# Altium footprint library smd_cap.PcbLib: 15 footprints
Each footprint in its own frame and in the unit in brackets; x right, y up, seen from the top. Pads: shape width x height; smd on the part's side, far side on the other; paste and mask are expansions set on the pad; w line width, h text height; cw(c..) or ccw(c..) is an arc to the next point about the centre after c.
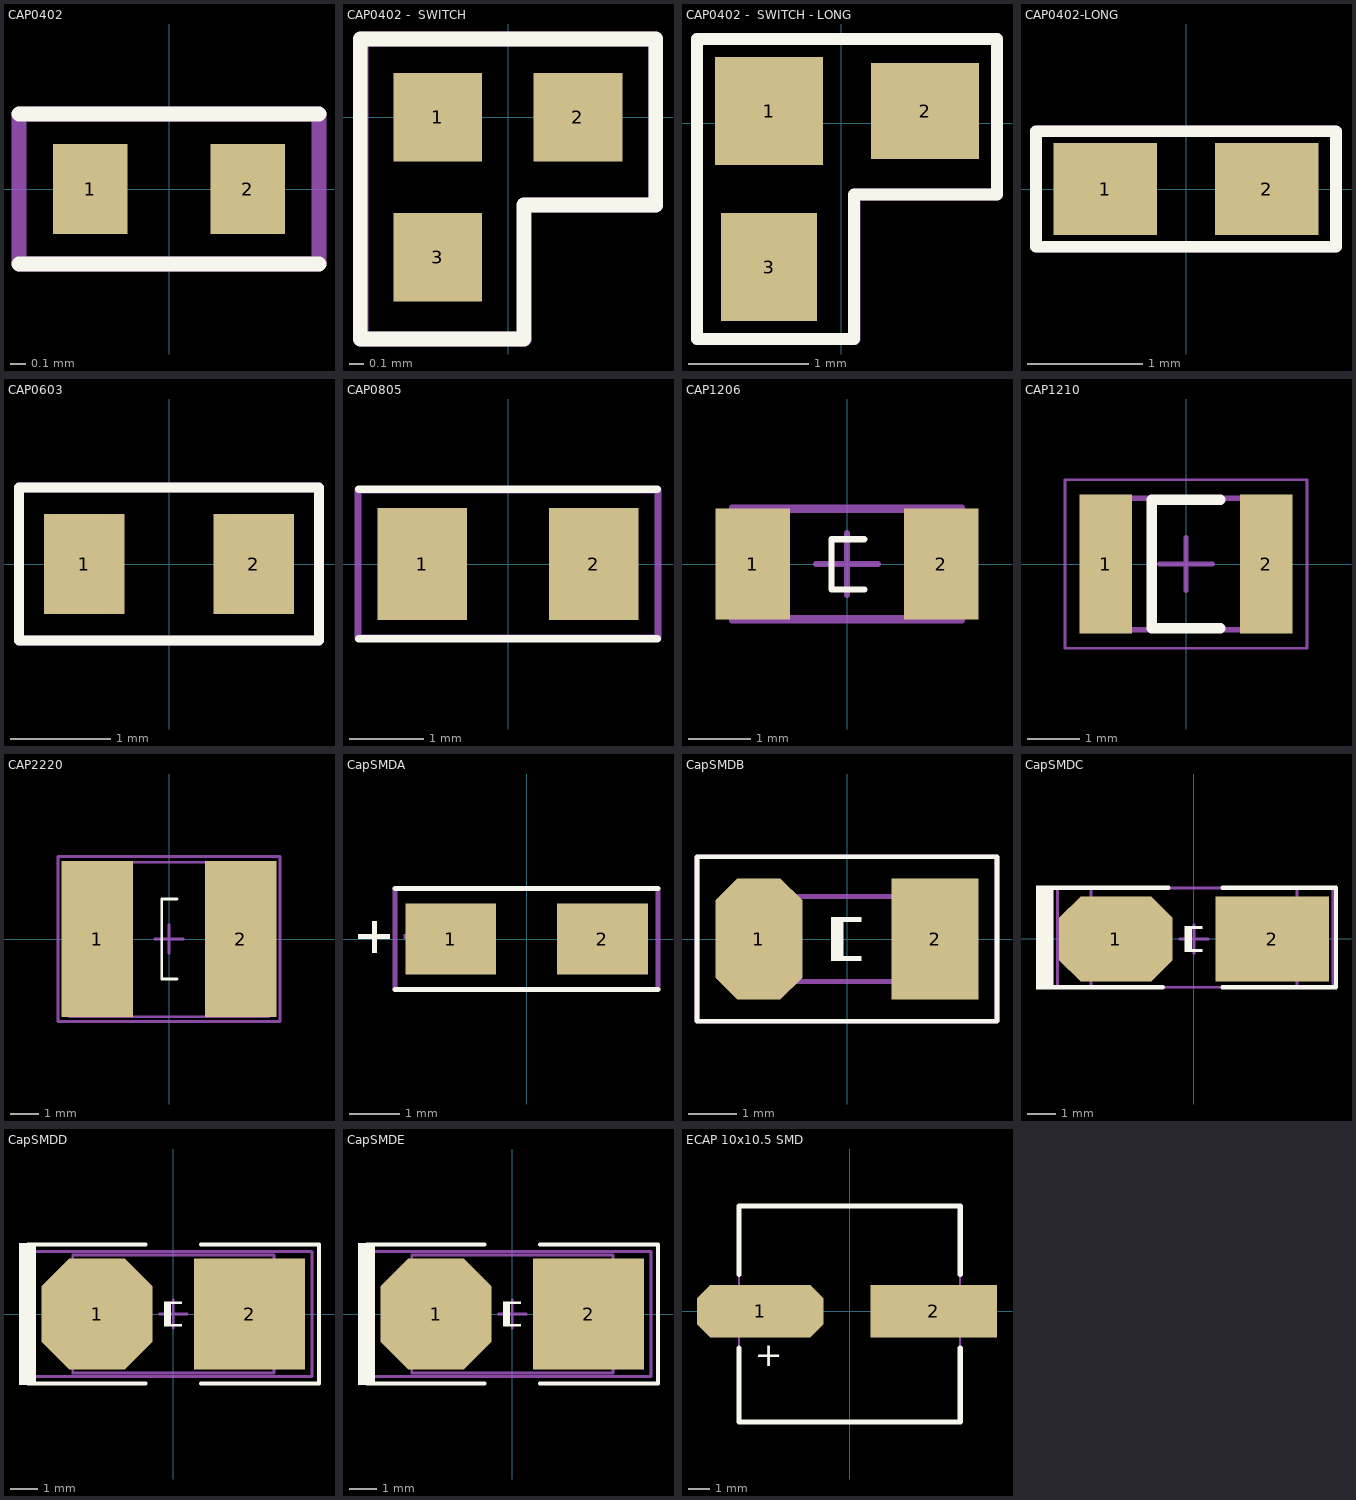
[diagram p0: the footprints below, top view; thin cyan lines are the x and y axes]

## CAP0402 [mm]
pads (2):
  rect 0.5x0.6 smd: 1(-0.525,0) 2(0.525,0)
Top Overlay:
  lines w0.1: -1,-0.5 1,-0.5 ; -1,0.5 1,0.5
Mechanical 29:
  lines w0.1: -1,-0.5 1,-0.5 1,0.5 -1,0.5 -1,-0.5
  text ".Comment" at -0.889,0.635 h0.7
  text ".Designator" at -1,-0.3 h0.7
3D body "CAP0402.step": height 0.5, standoff 0, extent -0.5,-0.25 0.5,0.25

## CAP0402 -  SWITCH [mm] "Возможность комутировать антенну"
pads (3):
  rect 0.6x0.6 smd: 1(-0.475,0) 2(0.473,0) 3(-0.475,-0.948)
Top Overlay:
  lines w0.1: -1,-1.501 0.106,-1.501 0.106,-0.595 0.999,-0.595 0.999,0.529 -1,0.529 -1,-1.501
Mechanical 29:
  lines w0.1: -0.996,-1.501 0.111,-1.501 0.111,-0.595 0.999,-0.595 0.999,0.529 -0.996,0.529 -0.996,-1.501
  text ".Designator" at -0.921,0.635 h0.7
3D body "CAP0402.step": height 0.5, standoff 0, extent -0.5,-0.25 0.5,0.25

## CAP0402 -  SWITCH - LONG [mm] "Возможность комутировать антенну"
pads (3):
  rect 0.9x0.9 smd: 1(-0.6,0.1)
  rect 0.9x0.8 smd: 2(0.7,0.1)
  rect 0.8x0.9 smd: 3(-0.6,-1.2)
Top Overlay:
  lines w0.1: -1.2,-1.8 0.106,-1.8 0.106,-0.595 1.3,-0.595 1.3,0.7 -1.2,0.7 -1.2,-1.8
Mechanical 29:
  lines w0.1: -1.2,-1.8 0.111,-1.8 0.111,-0.595 1.3,-0.595 1.3,0.7 -1.2,0.7 -1.2,-1.8
  text ".Designator" at -0.921,0.635 h0.7
3D body "CAP0402.step": height 0.5, standoff 0, extent -0.4,-0.2 0.6,0.3

## CAP0402-LONG [mm]
pads (2):
  rect 0.9x0.8 smd: 1(-0.7,0) 2(0.7,0)
Top Overlay:
  lines w0.1: -1.3,-0.5 1.3,-0.5 1.3,0.5 -1.3,0.5 -1.3,-0.5
Mechanical 29:
  lines w0.1: -1.3,-0.5 1.3,-0.5 1.3,0.5 -1.3,0.5 -1.3,-0.5
  text ".Designator" at -1,-0.3 h0.7
3D body "CAP0402.step": height 0.5, standoff 0, extent -0.5,-0.25 0.5,0.25

## CAP0603 [mm] "Chip Resistor, 2-Leads, Body 2,0x1,3mm, IPC Medium Density"
height 0.5
pads (2):
  rect 0.8x1 smd: 1(-0.847,0) 2(0.847,0)
Top Overlay:
  lines w0.1: -1.499,-0.762 1.499,-0.762 1.499,0.762 -1.499,0.762 -1.499,-0.762
Mechanical 29:
  lines w0.1: -1.499,-0.762 1.499,-0.762 1.499,0.762 -1.499,0.762 -1.499,-0.762
  text ".Comment" at -1.289,0.872 h0.7
  text ".Designator" at -0.94,-0.178 h1
3D body "cap0603.STEP": height 0.89, standoff 0.01, extent -0.812,-0.423 0.788,0.387

## CAP0805 [mm]
pads (2):
  rect 1.2x1.5 smd: 1(-1.148,0) 2(1.148,0)
Top Overlay:
  lines w0.1: -2,-1 2,-1 ; -2,1 2,1
Mechanical 29:
  lines w0.1: -2.007,-0.991 -2.007,0.991 2.007,0.991 2.007,-0.991 -2.007,-0.991
  text ".Designator" at -1.7,-0.3 h0.7
  text ".Comment" at -1.397,1.143 h0.7
3D body "CAP0805.step": height 0.78, standoff 0, extent -1,-0.599 1,0.651

## CAP1206 [mm]
pads (2):
  rect 1.2x1.8 smd: 1(-1.522,0) 2(1.522,0)
Top Overlay:
  lines w0.1: -0.252,-0.412 0.279,-0.412 ; -0.252,-0.399 -0.252,0.401 0.279,0.401
Mechanical 13:
  lines w0.1: -1.625,-0.875 1.625,-0.875 1.625,0.875 -1.625,0.875 -1.625,-0.875
Mechanical 15:
  lines w0.1: -0.5,0 0.5,0 ; 0,-0.5 0,0.5 ; -1.854,-0.914 1.854,-0.914 1.854,0.914 -1.854,0.914 -1.854,-0.914
3D body "CAP1206.step": height 1, standoff 0, extent -1.6,-0.785 1.6,0.816

## CAP1210 [mm] "Chip Capacitor, 2-Leads, Body 3,20x2,50mm, IPC Medium Density"
height 1.5
pads (2):
  rect 1x2.65 smd: 1(-1.525,0) 2(1.525,0)
Top Overlay:
  lines w0.2: 0.65,-1.225 -0.65,-1.225 -0.65,1.225 0.65,1.225
Mechanical 13:
  lines w0.1: -1.6,-1.25 1.6,-1.25 1.6,1.25 -1.6,1.25 -1.6,-1.25
Mechanical 15:
  lines w0.05: -2.3,-1.6 2.3,-1.6 2.3,1.6 -2.3,1.6 -2.3,-1.6
  lines w0.1: -0.5,0 0.5,0 ; 0,-0.5 0,0.5
3D body "CAP1210.step": height 1.5, standoff 0, extent -1.6,-1.25 1.6,1.25

## CAP2220 [mm]
pads (2):
  rect 2.5x5.5 smd: 1(-2.522,0) 2(2.522,0)
Top Overlay:
  lines w0.1: 0.279,-1.4 -0.252,-1.4 -0.252,1.4 0.279,1.4
Mechanical 13:
  lines w0.1: -3.492,-2.73 3.493,-2.73 3.493,2.7 -3.492,2.7 -3.492,-2.73
Mechanical 15:
  lines w0.1: -0.5,0 0.5,0 ; 0,-0.5 0,0.5 ; -3.9,-2.9 3.9,-2.9 3.9,2.9 -3.9,2.9 -3.9,-2.9
3D body "User Library-cap2220.STEP": height 2.25, standoff -0.05, extent -3.492,-2.73 3.493,2.731

## CapSMDA [mm]
pads (2):
  rect 1.8x1.4 smd: 1(-1.5,0) 2(1.5,0)
Top Overlay:
  rectangle: -3.335,-0.002 -2.7,0.1
  region: -2.96,-0.275 -2.96,0.36 -3.062,0.36 -3.062,-0.275
  lines w0.1: -2.6,-1 2.6,-1 ; -2.6,1 2.6,1
Mechanical 29:
  rectangle: -2.435,-0.002 -1.8,0.1
  region: -2.06,-0.275 -2.06,0.36 -2.162,0.36 -2.162,-0.275
  lines w0.1: -2.6,-1 -2.6,1 2.6,1 2.6,-1 -2.6,-1
  text ".Comment" at -1.6,1.1 h0.7
  text ".Designator" at -1.6,-0.1 h0.7
3D body "CAPSMDA.STEP": height 1.81, standoff 0, extent -1.819,-0.903 1.819,0.9

## CapSMDB [mm]
pads (2):
  oct 1.8x2.5 smd: 1(-1.822,0)
  rect 1.8x2.5 smd: 2(1.822,0)
Top Overlay:
  rectangle: -0.33,-0.457 0.305,-0.356
  rectangle: -0.33,0.356 0.305,0.457
  rectangle: -0.33,-0.457 -0.076,0.457
  lines w0.1: -3.1,-1.7 -3.1,1.7 3.1,1.7 3.1,-1.7 -3.1,-1.7
Mechanical 13:
  lines w0.1: -1.625,-0.875 -1.625,0.875 1.625,0.875 1.625,-0.875 -1.625,-0.875
Mechanical 29:
  lines w0.1: -3.1,-1.7 3.1,-1.7 3.1,1.7 -3.1,1.7 -3.1,-1.7
  text ".Designator" at -2.9,-0.8 h3
3D body "CAPSMDB.STEP": height 2.11, standoff 0, extent -1.977,-1.497 1.977,1.5

## CapSMDC [mm]
pads (2):
  oct 4x3 smd: 1(-2.75,0)
  rect 4x3 smd: 2(2.75,0)
Top Overlay:
  rectangle: -0.33,-0.457 0.305,-0.356
  rectangle: -0.33,0.356 0.305,0.457
  rectangle: -0.33,-0.457 -0.076,0.457
  rectangle: -5.563,-1.774 -4.953,1.875
  lines w0.15: -5.35,-1.7 -1.1,-1.7 ; -5.15,1.8 -0.9,1.8 ; 1,-1.7 5,-1.7 5,1.8 1,1.8
Mechanical 13:
  lines w0.1: -3.625,-1.7 3.625,-1.7 3.625,1.8 -3.625,1.8 -3.625,-1.7
Mechanical 15:
  lines w0.1: -0.5,0 0.5,0 ; 0,-0.5 0,0.5 ; -4.8,-1.7 4.9,-1.7 4.9,1.8 -4.8,1.8 -4.8,-1.7
3D body "CAPSMDC.STEP": height 2.79, standoff -0.04, extent -3.646,-1.702 3.951,1.811

## CapSMDD [mm]
pads (2):
  oct 4x4 smd: 1(-2.75,0)
  rect 4x4 smd: 2(2.75,0)
Top Overlay:
  rectangle: -0.33,-0.457 0.305,-0.356
  rectangle: -0.33,0.356 0.305,0.457
  rectangle: -0.33,-0.457 -0.076,0.457
  rectangle: -5.563,-2.565 -4.953,2.565
  lines w0.15: -5.25,-2.5 -1,-2.5 ; -5.25,2.5 -1,2.5 ; 1,-2.5 5.25,-2.5 5.25,2.5 1,2.5
Mechanical 13:
  lines w0.1: -3.625,-2.125 3.625,-2.125 3.625,2.125 -3.625,2.125 -3.625,-2.125
Mechanical 15:
  lines w0.1: -0.5,0 0.5,0 ; 0,-0.5 0,0.5 ; -5,-2.25 5,-2.25 5,2.25 -5,2.25 -5,-2.25
3D body "CAPSMDD.STEP": height 3.1, standoff 0, extent -3.702,-2.362 4.159,2.248

## CapSMDE [mm]
pads (2):
  oct 4x4 smd: 1(-2.75,0)
  rect 4x4 smd: 2(2.75,0)
Top Overlay:
  rectangle: -5.563,-2.565 -4.953,2.565
  rectangle: -0.33,-0.457 -0.076,0.457
  rectangle: -0.33,0.356 0.305,0.457
  rectangle: -0.33,-0.457 0.305,-0.356
  lines w0.15: -5.25,-2.5 -1,-2.5 ; -5.25,2.5 -1,2.5 ; 1,-2.5 5.25,-2.5 5.25,2.5 1,2.5
Mechanical 13:
  lines w0.1: -3.625,-2.125 -3.625,2.125 3.625,2.125 3.625,-2.125 -3.625,-2.125
Mechanical 15:
  lines w0.1: -0.5,0 0.5,0 ; 0,-0.5 0,0.5 ; -5,-2.25 -5,2.25 5,2.25 5,-2.25 -5,-2.25
3D body "CAPSMDE.STEP": height 3.91, standoff 0, extent -3.927,-2.342 3.977,2.311

## ECAP 10x10.5 SMD [mm]
pads (2):
  oct 6x2.5 smd: 1(-4.25,0)
  rect 6x2.5 smd: 2(4,0)
Top Overlay:
  lines w0.25: -5.25,-1.75 -5.25,-5.25 -5.15,-5.25 5.25,-5.25 5.25,-1.75 ; -5.25,1.75 -5.25,5 5.25,5 5.25,1.75
  text "+" at -4.5,-3 h2
Mechanical 13:
  lines w0.1: -5.25,-5.25 5.25,-5.25 5.25,5 -5.25,5 -5.25,-5.25
Mechanical 29:
  text ".Designator" at -4,2.75 h2
3D body "34808.stp": height 12.65, standoff -0.05, extent -5.15,-5.25 5.15,5.05